# EAGLE library part JST-XH-6 (library greg)
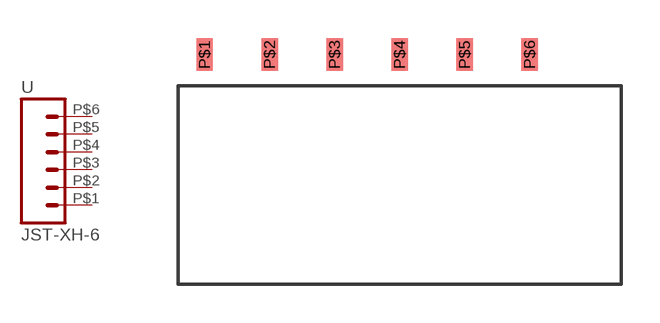
[diagram p20: symbol with the pads of JST-XH-6-RA; footprint JST-XH-6-RA]

Designator prefix -

## JST-XH-6  [JST-XH-6-RA]
P$1  1  pas
P$2  2  pas
P$3  3  pas
P$4  4  pas
P$5  5  pas
P$6  6  pas

## Footprint JST-XH-6-RA (pad centres in mm)
smd 0.635 x 1.27: P$1 1.27,6.35; P$2 3.81,6.35; P$3 6.35,6.35; P$4 8.89,6.35; P$5 11.43,6.35; P$6 13.97,6.35